# Altium footprint library QFN1610.PcbLib: 1 footprints
Each footprint in its own frame and in the unit in brackets; x right, y up, seen from the top. Pads: shape width x height; smd on the part's side, far side on the other; paste and mask are expansions set on the pad; w line width, h text height; cw(c..) or ccw(c..) is an arc to the next point about the centre after c.
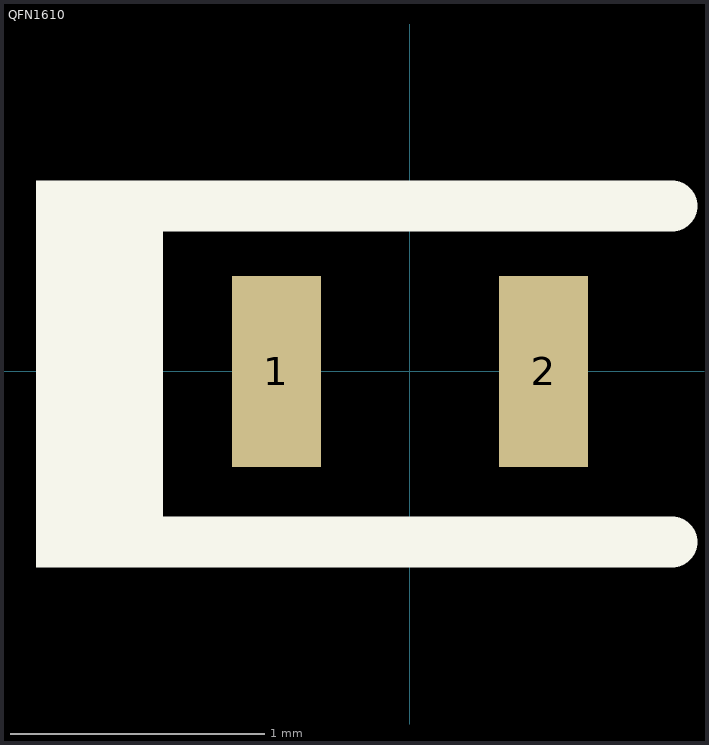
[diagram p0: the footprint, top view; thin cyan lines are the x and y axes]

## QFN1610 [mm]
height 0.6
pads (2):
  rect 0.35x0.75 smd: 1(-0.525,0) 2(0.525,0)
Top Overlay:
  rectangle: -1.47,-0.77 -0.97,0.75
  lines w0.2: -1.21,0.65 1.03,0.65 ; -1.05,-0.67 1.03,-0.67
3D body: height 0.6, standoff 0.01, extent -0.8,-0.5 0.8,0.5